# Altium schematic symbol library U_74LVC2G04.SchLib: 1 symbol
Pins are listed as number, name and electrical type; pins without a type are passive.

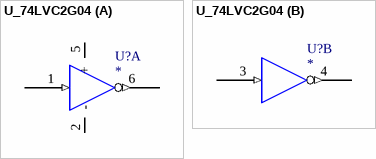
[diagram p0: symbol U_74LVC2G04]

## U_74LVC2G04
designator U?
part A pins: 1 A (in), 2 - (power), 5 + (power), 6 Y (out)
part B pins: 3 A (in), 4 Y (out)